# Altium schematic symbol library 47uF 0603  CAP.SchLib: 1 symbol
Pins are listed as number, name and electrical type; pins without a type are passive.

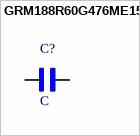
[diagram p0: symbol GRM188R60G476ME15D]

## GRM188R60G476ME15D
designator C?, comment C
Multilayer Ceramic Capacitors - 47uF 4V X5R 20% Pad SMD 0603 85C T/R; Manufacturer Part Number: GRM188R60G476ME15D; MF: Murata; Digi-Key_Part_Number: 490-13246-1-ND; SnapEDA_Link: https://www.snapeda.com/parts/GRM188R60G476ME15D/Murata%2520Electronics%2520North%2520America/view-part/?ref=snap; Package: 0603 Murata; Digi-Key_Purchase_URL: https://www.digikey.ca/product-detail/en/murata-electronics-north-america/GRM188R60G476ME15D/490-13246-1-ND/5877454?utm_source=snapeda&utm_medium=aggregator&utm_campaign=symbol; Value: 47uF
footprint CAPC1608X9N
footprint CAPC1608X9N
footprint CAPC1608X9N
pins: 1, 2